# Altium footprint library MC2016K250000C16ESH.PcbLib: 1 footprints
Each footprint in its own frame and in the unit in brackets; x right, y up, seen from the top. Pads: shape width x height; smd on the part's side, far side on the other; paste and mask are expansions set on the pad; w line width, h text height; cw(c..) or ccw(c..) is an arc to the next point about the centre after c.
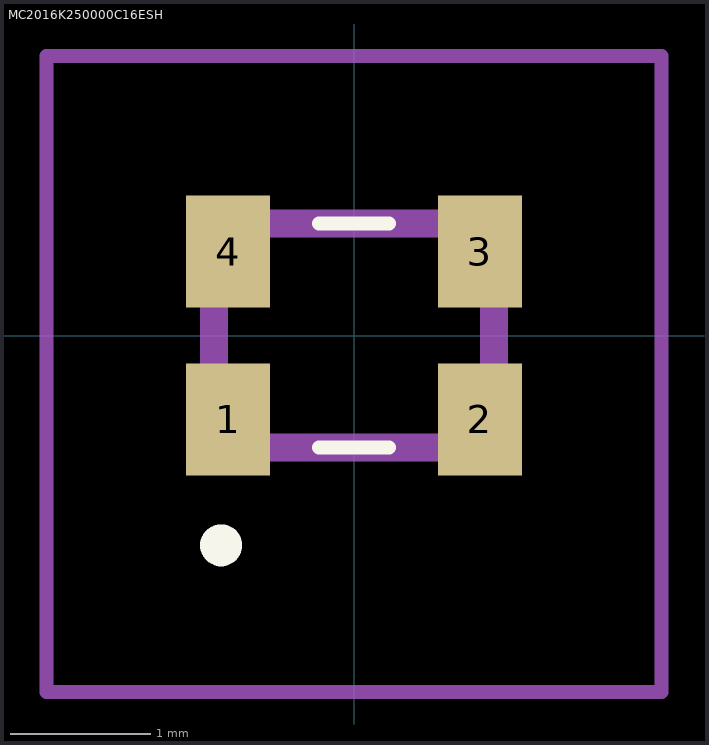
[diagram p0: the footprint, top view; thin cyan lines are the x and y axes]

## MC2016K250000C16ESH [mm]
pads (4):
  rect 0.6x0.8 smd: 1(-0.9,-0.6) 2(0.9,-0.6) 3(0.9,0.6) 4(-0.9,0.6)
Top Overlay:
  lines w0.1: -0.25,-0.8 0.25,-0.8 -0.25,-0.8 ; -0.25,0.8 0.25,0.8 -0.25,0.8
  lines w0.2: -1,-1.5 ccw(c-0.95,-1.5) -0.9,-1.5 ; -1,-1.5 cw(c-0.95,-1.5) -0.9,-1.5 ; -1,-1.5 ccw(c-0.95,-1.5) -0.9,-1.5
Mechanical 15:
  lines w0.2: -1,-0.8 -1,0.8 1,0.8 1,-0.8 -1,-0.8
Mechanical 20:
  lines w0.1: -2.2,-2.55 -2.2,2 2.2,2 2.2,-2.55 -2.2,-2.55
3D body "MC2016K25.0000C16ESH.stp": height 0.9, standoff 0, extent -1.14,-0.94 1.14,0.94